# Altium footprint library footprints.PcbLib: 14 footprints
Each footprint in its own frame and in the unit in brackets; x right, y up, seen from the top. Pads: shape width x height; smd on the part's side, far side on the other; paste and mask are expansions set on the pad; w line width, h text height; cw(c..) or ccw(c..) is an arc to the next point about the centre after c.
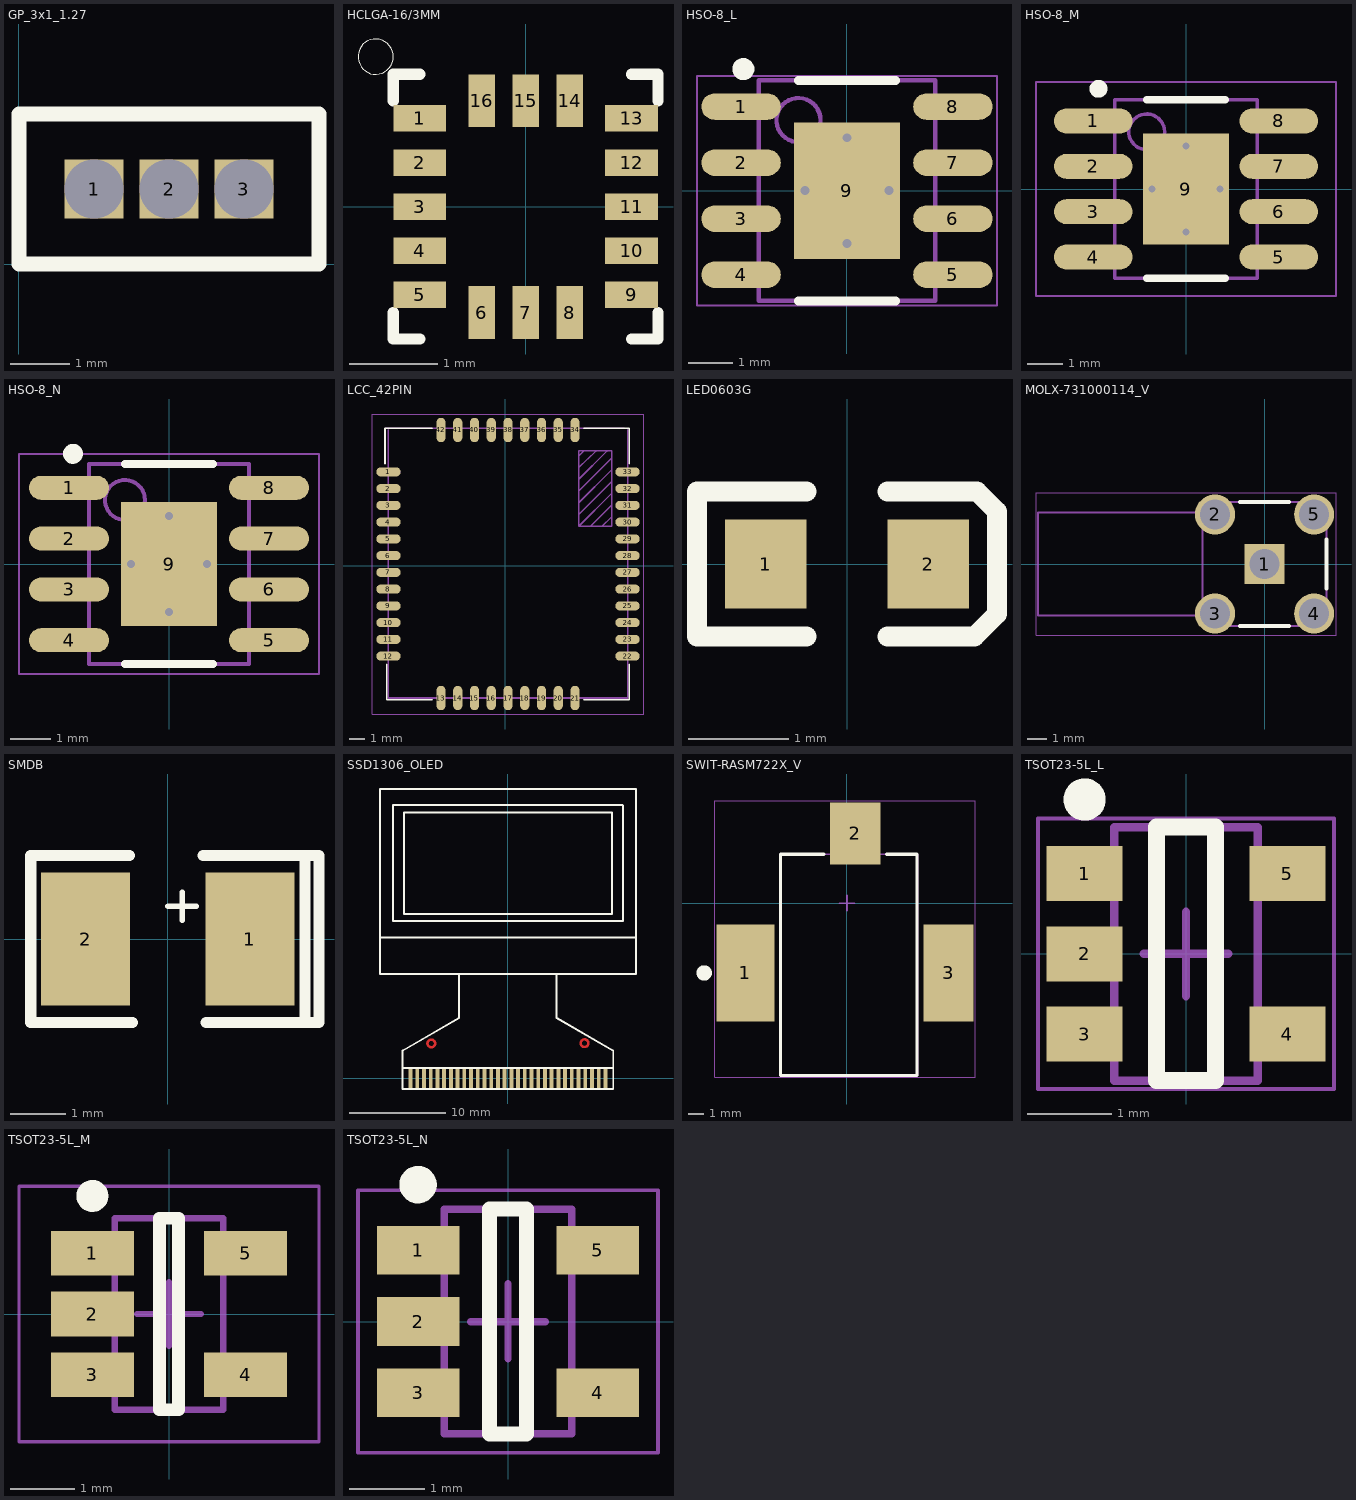
[diagram p0: the footprints below, top view; thin cyan lines are the x and y axes]

## GP_3x1_1.27 [mm]
pads (3):
  rect 1x1 hole 1 square: 1(1.27,1.27)
  rect 1x1 hole 1: 2(2.54,1.27) 3(3.81,1.27)
Top Overlay:
  lines w0.254: 0,0 0,0.77 0,2.54 5.08,2.54 5.08,0 0,0
3D body: height 0.25, standoff 0, extent 0,0 5.08,2.54

## HCLGA-16/3MM [mm]
pads (16):
  rect 0.6x0.3 smd: 1(-1.2,1) 2(-1.2,0.5) 3(-1.2,0) 4(-1.2,-0.5) 5(-1.2,-1) 9(1.2,-1) 10(1.2,-0.5) 11(1.2,0) 12(1.2,0.5) 13(1.2,1)
  rect 0.3x0.6 smd: 6(-0.5,-1.2) 7(0,-1.2) 8(0.5,-1.2) 14(0.5,1.2) 15(0,1.2) 16(-0.5,1.2)
Top Overlay:
  circle w0: c-1.7,1.7 r0.2
  lines w0.127: -1.5,-1.2 -1.5,-1.5 -1.2,-1.5 ; -1.5,1.2 -1.5,1.5 -1.2,1.5 ; 1.2,-1.5 1.5,-1.5 1.5,-1.2 ; 1.2,1.5 1.5,1.5 1.5,1.2

## HSO-8_L [mm] "SOIC, 8-Leads, Body 4.9x3.9mm, Pitch 1.27mm, Thermal Pad, IPC High Density"
height 1.75
pads (9):
  oval 1.8x0.6 smd: 1(-2.4,1.905) 2(-2.4,0.635) 3(-2.4,-0.635) 4(-2.4,-1.905) 5(2.4,-1.905) 6(2.4,-0.635) 7(2.4,0.635) 8(2.4,1.905)
  rect 2.4x3.1 smd paste-1.2: 9(0,0)
via 0.95,0 diameter 0.5 hole 0.2
via 0,1.2 diameter 0.5 hole 0.2
via 0,-1.2 diameter 0.5 hole 0.2
via -0.95,0 diameter 0.5 hole 0.2
Top Overlay:
  circle w0.25: c-2.35,2.755 r0.125
  lines w0.2: -1.1,-2.5 1.1,-2.5 ; -1.1,2.5 1.1,2.5
Top Paste:
  rectangle: 0.1,0.1 1.1,1.45
  region: -0.1,1.45 -1.1,1.45 -1.1,0.1 -0.1,0.1
  region: -0.1,-0.1 -1.1,-0.1 -1.1,-1.45 -0.1,-1.45
  rectangle: 0.1,-1.45 1.1,-0.1
Mechanical 13:
  circle w0.1: c-1.1,1.6 r0.5
  lines w0.1: -2,-2.5 2,-2.5 2,2.5 -2,2.5 -2,-2.5
Mechanical 15:
  lines w0.05: -3.4,-2.6 3.4,-2.6 3.4,2.6 -3.4,2.6 -3.4,-2.6
  lines w0.1: -0.5,0 0.5,0 ; 0,-0.5 0,0.5
3D body: height 1.75, standoff 0, extent -2,-2.5 2,2.5

## HSO-8_M [mm] "SOIC, 8-Leads, Body 4.9x3.9mm, Pitch 1.27mm, Thermal Pad, IPC Low Density"
height 1.75
pads (9):
  oval 2.2x0.7 smd: 1(-2.6,1.905) 2(-2.6,0.635) 3(-2.6,-0.635) 4(-2.6,-1.905) 5(2.6,-1.905) 6(2.6,-0.635) 7(2.6,0.635) 8(2.6,1.905)
  rect 2.4x3.1 smd paste-1.2: 9(0,0)
via 0.95,0 diameter 0.5 hole 0.2
via 0,1.2 diameter 0.5 hole 0.2
via 0,-1.2 diameter 0.5 hole 0.2
via -0.95,0 diameter 0.5 hole 0.2
Top Overlay:
  circle w0.25: c-2.45,2.805 r0.125
  lines w0.2: -1.1,-2.5 1.1,-2.5 ; -1.1,2.5 1.1,2.5
Top Paste:
  rectangle: 0.1,0.1 1.1,1.45
  region: -0.1,1.45 -1.1,1.45 -1.1,0.1 -0.1,0.1
  region: -0.1,-0.1 -1.1,-0.1 -1.1,-1.45 -0.1,-1.45
  rectangle: 0.1,-1.45 1.1,-0.1
Mechanical 13:
  circle w0.1: c-1.1,1.6 r0.5
  lines w0.1: -2,-2.5 2,-2.5 2,2.5 -2,2.5 -2,-2.5
Mechanical 15:
  lines w0.05: -4.2,-3 4.2,-3 4.2,3 -4.2,3 -4.2,-3
  lines w0.1: -0.5,0 0.5,0 ; 0,-0.5 0,0.5
3D body: height 1.75, standoff 0, extent -2,-2.5 2,2.5

## HSO-8_N [mm] "SOIC, 8-Leads, Body 4.9x3.9mm, Pitch 1.27mm, Thermal Pad, IPC Medium Density"
height 1.75
pads (9):
  oval 2x0.6 smd: 1(-2.5,1.905) 2(-2.5,0.635) 3(-2.5,-0.635) 4(-2.5,-1.905) 5(2.5,-1.905) 6(2.5,-0.635) 7(2.5,0.635) 8(2.5,1.905)
  rect 2.4x3.1 smd paste-1.2: 9(0,0)
via -0.95,0 diameter 0.5 hole 0.2
via 0,-1.2 diameter 0.5 hole 0.2
via 0,1.2 diameter 0.5 hole 0.2
via 0.95,0 diameter 0.5 hole 0.2
Top Overlay:
  circle w0.25: c-2.4,2.755 r0.125
  lines w0.2: -1.1,-2.5 1.1,-2.5 ; -1.1,2.5 1.1,2.5
Top Paste:
  rectangle: 0.1,-1.45 1.1,-0.1
  region: -0.1,-0.1 -1.1,-0.1 -1.1,-1.45 -0.1,-1.45
  region: -0.1,1.45 -1.1,1.45 -1.1,0.1 -0.1,0.1
  rectangle: 0.1,0.1 1.1,1.45
Mechanical 13:
  circle w0.1: c-1.1,1.6 r0.5
  lines w0.1: -2,-2.5 -2,2.5 2,2.5 2,-2.5 -2,-2.5
Mechanical 15:
  lines w0.05: -3.75,-2.75 -3.75,2.75 3.75,2.75 3.75,-2.75 -3.75,-2.75
  lines w0.1: -0.5,0 0.5,0 ; 0,-0.5 0,0.5
3D body: height 1.75, standoff 0, extent -2,-2.5 2,2.5

## LCC_42PIN [mm] "LCC 42-pin case for SIMCOM SIM7020 communication module"
pads (42):
  rrect100% 1.6x0.6 smd: 1(-7.657,6.177) 2(-7.657,5.077) 3(-7.657,3.977) 4(-7.657,2.877) 5(-7.657,1.777) 6(-7.657,0.677) 7(-7.657,-0.423) 8(-7.657,-1.523) 9(-7.657,-2.623) 10(-7.657,-3.723) 11(-7.657,-4.823) 12(-7.657,-5.923) 22(8.043,-5.923) 23(8.043,-4.823) 24(8.043,-3.723) 25(8.043,-2.623) 26(8.043,-1.523) 27(8.043,-0.423) 28(8.043,0.677) 29(8.043,1.777) 30(8.043,2.877) 31(8.043,3.977) 32(8.043,5.077) 33(8.043,6.177)
  rrect100% 0.6x1.6 smd: 13(-4.207,-8.673) 14(-3.107,-8.673) 15(-2.007,-8.673) 16(-0.907,-8.673) 17(0.193,-8.673) 18(1.293,-8.673) 19(2.393,-8.673) 20(3.493,-8.673) 21(4.593,-8.673) 34(4.593,8.927) 35(3.493,8.927) 36(2.393,8.927) 37(1.293,8.927) 38(0.193,8.927) 39(-0.907,8.927) 40(-2.007,8.927) 41(-3.107,8.927) 42(-4.207,8.927)
Top Overlay:
  lines w0.12: -7.875,6.727 -7.875,9.037 -4.807,9.037 ; -7.767,-6.473 -7.767,-8.783 -4.807,-8.783 ; 5.193,-8.783 8.153,-8.783 8.153,-6.473 ; 5.193,9.037 8.153,9.037 8.153,6.727
Mechanical 2:
  lines w0.1: 4.843,3.377 6.993,5.527 ; 4.843,4.147 6.993,6.297 ; 4.843,4.917 6.993,7.067 ; 4.843,5.687 6.703,7.547 ; 4.843,6.457 5.973,7.547 ; 4.843,7.227 5.163,7.547 ; 5.608,2.613 6.993,3.987 ; 6.373,2.607 6.993,3.217 ; 6.993,4.757 4.843,2.607 ; 4.843,2.607 4.843,7.557 6.993,7.557 6.993,2.607 4.843,2.607
Mechanical 4:
  lines w0.05: -8.707,-9.723 -8.707,9.977 9.093,9.977 9.093,-9.723 -8.707,-9.723
Mechanical 6:
  lines w0.1: -7.875,9.037 7.825,9.037 ; -7.657,5.927 -6.907,6.177 -7.657,6.427 ; -7.657,8.927 -7.657,-8.673 8.043,-8.673 8.043,8.927
  text "%R" at 0,0 h1
Mechanical 7:
  text "Keep out" at 5.577,4.136 h0.5
  text "of Area" at 6.358,4.393 h0.5
3D body "LPC42.STEP": height 2.51, standoff 0.01, extent -7.775,-8.625 7.925,8.975

## LED0603G [mil]
pads (2):
  rect 32x35 smd: 1(-32,0) 2(32,0)
Top Overlay:
  lines w7.87: -16,-28.54 -59.06,-28.54 -59.06,28.54 -16,28.54 ; 16,-28.54 50.2,-28.54 59.06,-19.69 59.06,20.67 51.18,28.54 16,28.54
3D body "User Library-led_0603_green.step": height 23.62, standoff 0, extent -31.89,-15.75 31.89,15.74

## MOLX-731000114_V [mm] "Connector, 5-Leads, Body 14.8x6.35mm, Pitch 2.54mm"
height 9.57
pads (5):
  rect 2.05x2.05 hole 1.54: 1(0,0)
  round 2.05 hole 1.54: 2(-2.54,2.54) 3(-2.54,-2.54) 4(2.54,-2.54) 5(2.54,2.54)
Top Overlay:
  lines w0.2: -1.264,-3.175 1.264,-3.175 ; -1.264,3.175 1.264,3.175 ; 3.175,-1.264 3.175,1.264
Mechanical 13:
  lines w0.1: -11.625,2.641 -3.175,2.641 ; -11.625,2.65 -11.625,-2.65 -3.175,-2.65 ; -3.175,3.175 3.175,3.175 3.175,-3.175 ; -3.175,3.175 -3.175,3.175 ; -3.175,3.175 -3.175,-3.175 3.175,-3.175 ; 3.175,-3.175 3.175,-3.175
Mechanical 15:
  lines w0.05: -11.725,-3.665 -11.725,3.665 3.665,3.665 3.665,-3.665 -11.725,-3.665
  lines w0.1: -0.5,0 0.5,0 ; 0,-0.5 0,0.5
3D body "731000114.stp": height 9.57, standoff -3.93, extent -11.625,-3.175 3.175,3.175

## SMDB [mm] "SMDB"
pads (2):
  rect 1.6x2.4 smd: 1(1.476,0) 2(-1.475,0)
Top Overlay:
  lines w0.102: 0.003,0.589 0.511,0.589 ; 0.257,0.335 0.257,0.843
  lines w0.2: -2.464,-1.499 -2.464,-1.372 -2.464,1.372 -2.464,1.499 -0.686,1.499 ; -2.438,-1.499 -0.635,-1.499 ; 0.635,1.499 2.438,1.499 ; 0.686,-1.499 2.464,-1.499 ; 2.464,-1.499 2.718,-1.499 2.718,1.499 2.464,1.499 2.464,1.372 2.464,-1.372 2.464,-1.499
3D body "User Library-AVX_BCASE.step": height 2.03, standoff 0, extent -1.85,-1.465 1.85,1.465

## SSD1306_OLED [mm]
pads (30):
  rect 0.4x2 smd: 1(-10.156,0) 2(-9.456,0) 3(-8.755,0) 4(-8.055,0) 5(-7.354,0) 6(-6.654,0) 7(-5.954,0) 8(-5.253,0) 9(-4.553,0) 10(-3.852,0) 11(-3.152,0) 12(-2.451,0) 13(-1.751,0) 14(-1.051,0) 15(-0.35,0) 16(0.35,0) 17(1.051,0) 18(1.751,0) 19(2.451,0) 20(3.152,0) 21(3.852,0) 22(4.553,0) 23(5.253,0) 24(5.954,0) 25(6.654,0) 26(7.354,0) 27(8.055,0) 28(8.755,0) 29(9.456,0) 30(10.156,0)
Top Layer:
  circle w0.254: c7.976,3.675 r0.4
  circle w0.254: c-7.999,3.65 r0.4
Top Overlay:
  lines w0.2: -13.349,17.116 -13.349,14.675 13.301,14.675 ; -13.349,27.725 -13.349,30.166 ; -11.974,28.458 -11.974,16.4 11.964,16.4 ; -11.974,28.5 11.964,28.5 ; -10.999,10.9 -5.104,10.9 ; -10.924,1.1 10.976,1.1 ; -5.099,6.295 -10.999,2.9 ; -5.099,6.3 -5.099,10.9 ; 5.076,6.295 10.976,2.9 10.976,-1.1 -10.999,-1.1 ; 5.076,6.3 5.076,10.9 ; 10.976,-1.075 10.976,2.925 ; 11.976,16.4 11.976,28.458 ; 13.326,10.9 13.326,30.175 -13.349,30.175 -13.349,10.9 13.351,10.9 ; 13.326,14.675 13.326,17.116 ; 13.326,27.725 13.326,30.166 ; -10.999,-1.1 -10.999,2.9 ; -10.999,-1.1 -10.999,2.9 ; -10.849,17.125 10.851,17.125 10.851,27.725 -10.849,27.725 -10.849,17.125

## SWIT-RASM722X_V [mm] "SMD, 3-Leads, Body 14.5x9mm"
height 11
pads (3):
  rect 3.81x6.35 smd: 1(-6.645,-4.57)
  rect 3.3x4.06 smd: 2(0.545,4.57)
  rect 3.3x6.35 smd: 3(6.645,-4.57)
Top Overlay:
  circle w0.5: c-9.35,-4.57 r0.25
  lines w0.2: -1.505,3.2 -4.34,3.2 -4.34,-11.3 4.595,-11.3 4.595,3.2 2.595,3.2
Mechanical 13:
  lines w0.1: -4.373,-11.3 4.627,-11.3 4.628,3.2 -4.373,3.2 -4.373,-11.3
Mechanical 15:
  lines w0.05: -8.65,-11.4 8.395,-11.4 8.395,6.7 -8.65,6.7 -8.65,-11.4
  lines w0.1: -0.5,0 0.5,0 ; 0,-0.5 0,0.5
3D body "RASM722X.STEP": height 11.1, standoff 0.04, extent -7.504,-11.227 7.505,5.842

## TSOT23-5L_L [mm] "SOT23, 5-Leads, Body 2.9x1.6mm, Pitch 0.95mm, Lead Span 2.8mm, IPC High Density"
height 1.1
pads (5):
  rect 0.9x0.65 smd: 1(-1.2,0.95) 2(-1.2,0) 3(-1.2,-0.95) 4(1.2,-0.95) 5(1.2,0.95)
Top Overlay:
  circle w0.25: c-1.2,1.825 r0.125
  lines w0.2: -0.35,-1.5 0.35,-1.5 0.35,1.5 -0.35,1.5 -0.35,-1.5
Mechanical 13:
  lines w0.1: -0.85,-1.5 -0.85,1.5 0.85,1.5 0.85,-1.5 -0.85,-1.5
Mechanical 15:
  lines w0.05: -1.75,-1.6 -1.75,1.6 1.75,1.6 1.75,-1.6 -1.75,-1.6
  lines w0.1: -0.5,0 0.5,0 ; 0,-0.5 0,0.5
3D body: height 1.1, standoff 0, extent -0.85,-1.5 0.85,1.5

## TSOT23-5L_M [mm] "SOT23, 5-Leads, Body 2.9x1.6mm, Pitch 0.95mm, Lead Span 2.8mm, IPC Low Density"
height 1.1
pads (5):
  rect 1.3x0.7 smd: 1(-1.2,0.95) 2(-1.2,0) 3(-1.2,-0.95) 4(1.2,-0.95) 5(1.2,0.95)
Top Overlay:
  circle w0.25: c-1.2,1.85 r0.125
  lines w0.2: -0.15,-1.5 -0.15,1.5 0.15,1.5 0.15,-1.5 -0.15,-1.5
Mechanical 13:
  lines w0.1: -0.85,-1.5 0.85,-1.5 0.85,1.5 -0.85,1.5 -0.85,-1.5
Mechanical 15:
  lines w0.05: -2.35,-2 2.35,-2 2.35,2 -2.35,2 -2.35,-2
  lines w0.1: -0.5,0 0.5,0 ; 0,-0.5 0,0.5
3D body: height 1.1, standoff 0, extent -0.85,-1.5 0.85,1.5

## TSOT23-5L_N [mm] "SOT23, 5-Leads, Body 2.9x1.6mm, Pitch 0.95mm, Lead Span 2.8mm, IPC Medium Density"
height 1.1
pads (5):
  rect 1.1x0.65 smd: 1(-1.2,0.95) 2(-1.2,0) 3(-1.2,-0.95) 4(1.2,-0.95) 5(1.2,0.95)
Top Overlay:
  circle w0.25: c-1.2,1.825 r0.125
  lines w0.2: -0.25,-1.5 -0.25,1.5 0.25,1.5 0.25,-1.5 -0.25,-1.5
Mechanical 13:
  lines w0.1: -0.85,-1.5 0.85,-1.5 0.85,1.5 -0.85,1.5 -0.85,-1.5
Mechanical 15:
  lines w0.05: -2,-1.75 2,-1.75 2,1.75 -2,1.75 -2,-1.75
  lines w0.1: -0.5,0 0.5,0 ; 0,-0.5 0,0.5
3D body: height 1.1, standoff 0, extent -0.85,-1.5 0.85,1.5